# EAGLE library part PIN_HDR_EDG_1.27MM_5-2 (library open-bldc)
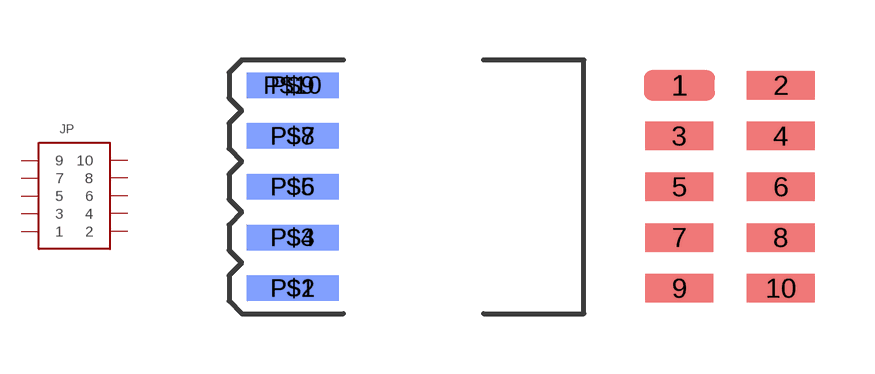
[diagram p7: symbol with the pads of PIN_HDR_EDG_1.27MM_5-2; footprints PIN_HDR_EDG_1.27MM_5-2, PIN_HDR_1.27MM_SMD_DH_10]

Designator prefix JP

## PIN_HDR_EDG_1.27MM_5-2-EDG  [PIN_HDR_EDG_1.27MM_5-2]
P$1  1
P$2  2
P$3  3
P$4  4
P$5  5
P$6  6
P$7  7
P$8  8
P$9  9
P$10  10

## PIN_HDR_EDG_1.27MM_5-2-DH  [PIN_HDR_1.27MM_SMD_DH_10]
1  1
2  2
3  3
4  4
5  5
6  6
7  7
8  8
9  9
10  10

## PIN_HDR_EDG_1.27MM_5-2-SFM  [SFM-105-XX-X-D]
Pads as for PIN_HDR_1.27MM_SMD_DH_10

## Footprint PIN_HDR_EDG_1.27MM_5-2 (pad centres in mm)
smd 2.3 x 0.635: P$1 0,0; P$3 0,1.27; P$5 0,2.54; P$7 0,3.81; P$9 0,5.08
smd 2.3 x 0.635 bottom: P$2 0,0; P$4 0,1.27; P$6 0,2.54; P$8 0,3.81; P$10 0,5.08

## Footprint PIN_HDR_1.27MM_SMD_DH_10 (pad centres in mm)
smd 1.78 x 0.76: 1 -1.27,2.54
smd 1.702 x 0.711: 2 1.27,2.54; 3 -1.27,1.27; 4 1.27,1.27; 5 -1.27,0; 6 1.27,0; 7 -1.27,-1.27; 8 1.27,-1.27; 9 -1.27,-2.54; 10 1.27,-2.54

## Footprint SFM-105-XX-X-D (pad centres in mm)
smd 0.737 x 2.222: 1 2.54,-1.372; 2 2.54,1.372; 3 1.27,-1.372; 4 1.27,1.372; 5 0,-1.372; 6 0,1.372; 7 -1.27,-1.372; 8 -1.27,1.372; 9 -2.54,-1.372; 10 -2.54,1.372